# Altium schematic symbol library Symbols.SchLib: 494 symbols (part 1 of 5)
Pins are listed as number, name and electrical type; pins without a type are passive.

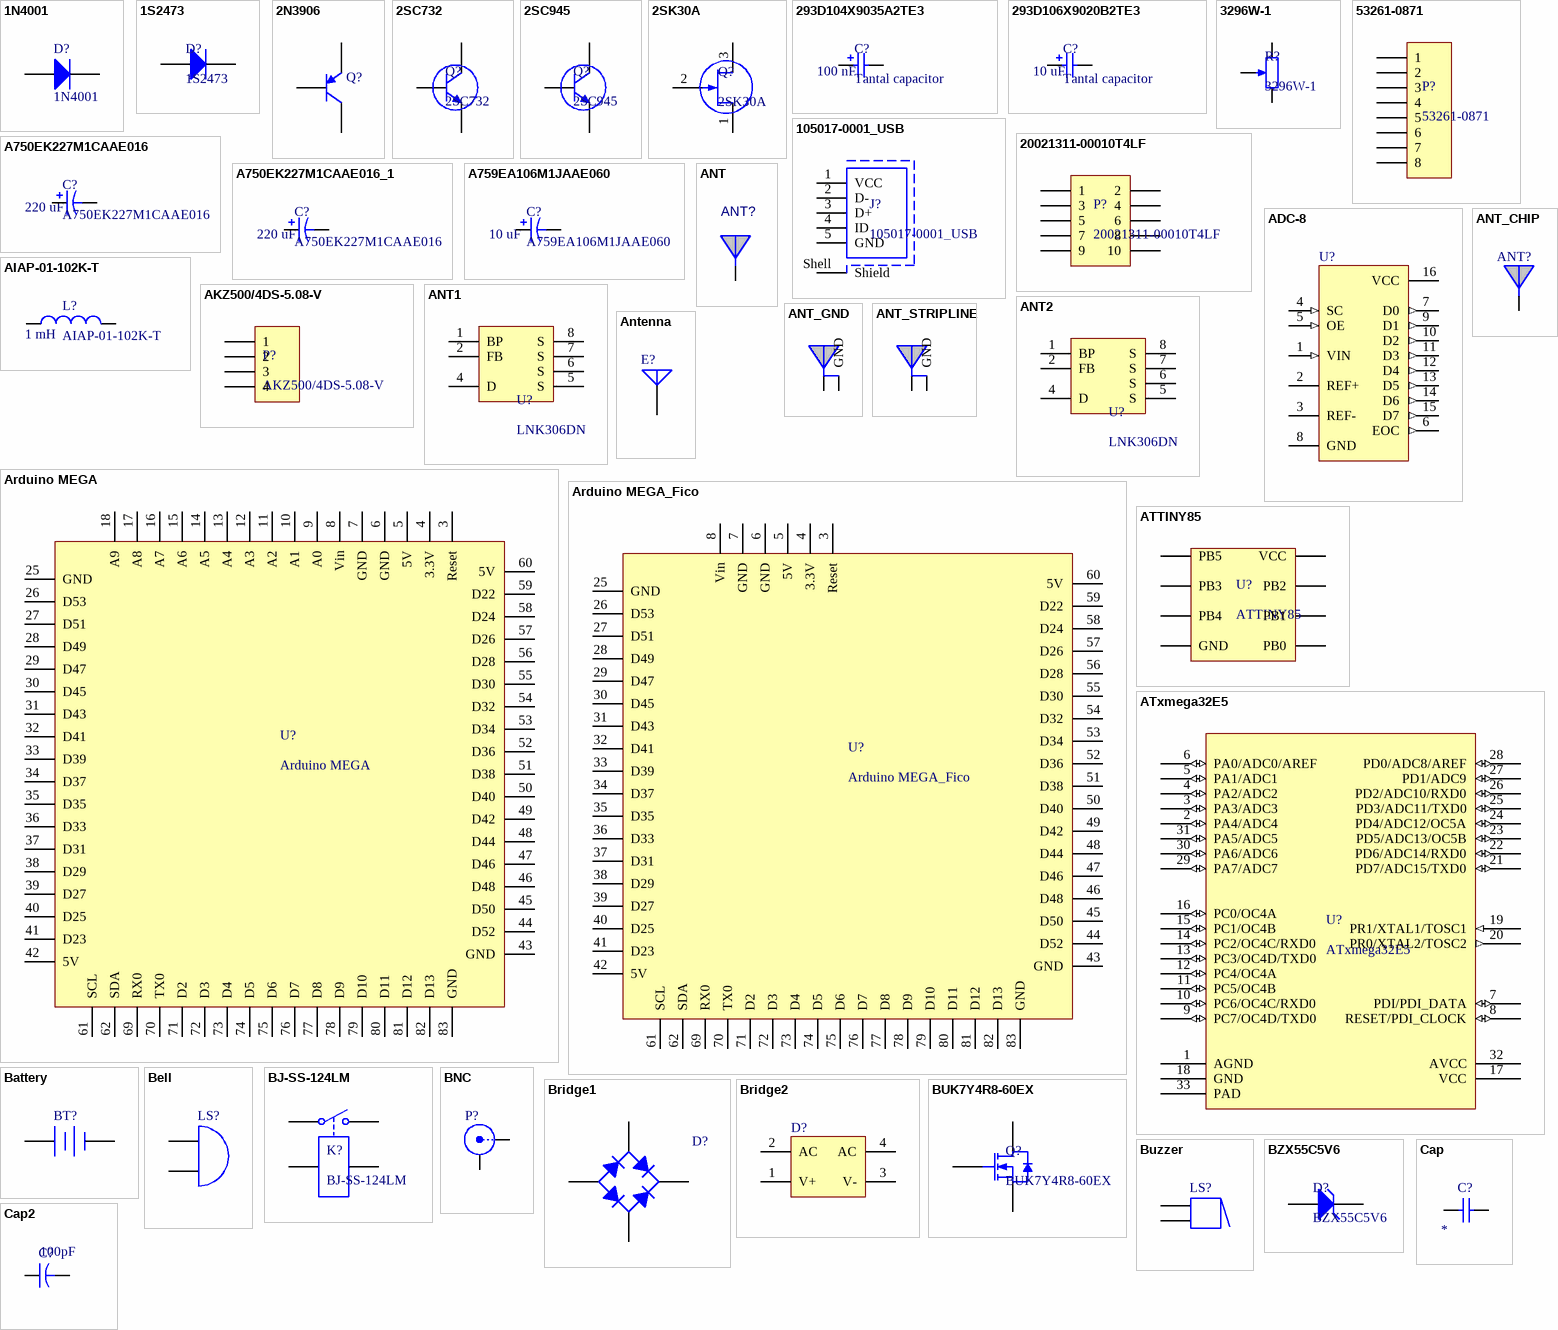
[diagram p0: symbols 1N4001 to Cap2]

## 1N4001
designator D?
1 Amp General Purpose Rectifier; Supplier1: Farnell; PackageReference: DO-41; ComponentLink1Description: Manufacturer Link; ComponentLink1URL: http://si.farnell.com/multicomp/1n4001/diode-standard-1a-50v-do-41/dp/9564993; ComponentLink2Description: Datasheet; ComponentLink2URL: http://www.farnell.com/datasheets/1520776.pdf?_ga=1.210767317.1762308356.1476454189; Supplier1URL: 9564993
footprint DO-41 (Diode, Axial; Body 5.2 x 2.7 mm (LxDia. max), Lead Dia. 0.86 mm (max))
pins: 1 A, 2 K

## 1S2473
designator D?
1S2473 diode; PacketDescription: DO-35; ComponentLink1Description: SupplierLink; ComponentLink1URL: http://www.ebay.com/sch/i.html?_from=R40&_trksid=p2050601.m570.l1313.TR0.TRC0.H0.X1S2473.TRS0&_nkw=1S2473&_sacat=0; ComponentLink2Description: Datasheet; ComponentLink2URL: http://www.datasheets360.com/pdf/4016301322630464877; Supplier1: eBay; Supplier Part Number 1: *; Value: *
footprint DO-35A (Diode, Axial; Body 4.6 x 1.9 mm (LxDia. max), Lead Dia. 0.53 mm (max))
pins: 1 A, 2 K

## 2N3906
designator Q?
PNP General Purpose Amplifier; Published: 8-Jun-2000; LatestRevisionDate: 15-Jan-2003; LatestRevisionNote: PCB Footprint 'BCY-W3/D4.7' replaced; DatasheetVersion: 1997; PackageVersion: Sep-1998; PackageReference: TO-92A; Publisher: Altium Limited; PackageDescription: TO, Flat Index; 3 In-Line, Axial Leads; Body Dia. 4.5mm; Leads 0.51 x 0.48 mm (max); ComponentLink1Description: Manufacturer Link; ComponentLink1URL: http://www.fairchildsemi.com/; ComponentLink2Description: Datasheet; ComponentLink2URL: http://www.fairchildsemi.com/ds/2N%2F2N3906.pdf
footprint TO-92A (TO, Flat Index; 3 In-Line, Axial Leads; Body Dia. 4.5mm; Leads 0.51 x 0.48 mm (max))
pins: 1 E, 2 B, 3 C

## 2SC732
designator Q?
2SC732TM-GR; PacketDescription: TO-92; ComponentLink1Description: SupplierLink; ComponentLink1URL: http://www.ebay.com/itm/2SC732-Encapsulation-TO-92-/120922014012?hash=item1c2783813c:g:MPoAAOSwa39UxafH; ComponentLink2Description: Datasheet; ComponentLink2URL: http://www.datasheets360.com/pdf/8018894242523559341; Supplier1: Ebay; Supplier Part Number 1: *; Value: *
footprint TO-92A (TO, Flat Index; 3 In-Line, Axial Leads; Body Dia. 4.5mm; Leads 0.51 x 0.48 mm (max))
pins: 1 E, 2 C, 3 B

## 2SC945
designator Q?
2SC945-P; PacketDescription: TO-92; ComponentLink1Description: SupplierLink; ComponentLink1URL: http://www.ebay.com/itm/50pairs-OR-100PCS-Transistor-TO-92-2SA733-P-2SC945-P-2SA733-2SC945-A733-P-C945-P-/272042034440?hash=item3f56f80508:g:FksAAOSwwbdWQgns; ComponentLink2Description: Datasheet; ComponentLink2URL: http://pdf.datasheetcatalog.com/datasheet/nec/2SC945.pdf; Supplier1: Ebay; Supplier Part Number 1: *; Value: *
footprint TO-92A (TO, Flat Index; 3 In-Line, Axial Leads; Body Dia. 4.5mm; Leads 0.51 x 0.48 mm (max))
pins: 1 E, 2 C, 3 B

## 2SK30A
designator Q?
2SK30ATM; PacketDescription: TO-92; ComponentLink1Description: SupplierLink; ComponentLink1URL: http://www.ebay.com/itm/10PCS-TOSHIBA-TO-92-2SK30ATM-Y-2SK30A-Y-2SK30A-K30A-Y-K30A-100-Genuine-and-New-/401025088597?hash=item5d5ef53c55:g:SzUAAOSwo0JWJkXx; ComponentLink2Description: Datasheet; ComponentLink2URL: http://pdf.datasheetcatalog.com/datasheet/toshiba/1032.pdf; Supplier1: Ebay; Supplier Part Number 1: *; Value: *
footprint TO-92A (TO, Flat Index; 3 In-Line, Axial Leads; Body Dia. 4.5mm; Leads 0.51 x 0.48 mm (max))
pins: 1 S, 2 G, 3 D

## 293D104X9035A2TE3
designator C?, comment Tantal capacitor  value 100 nF
0.1uF; 35VDC; PacketDescription: 3216 [Case A]; ComponentLink1Description: SupplierLink; ComponentLink1URL: https://www.tme.eu/gb/details/293d104x9035a2te3/smd-tantalum-capacitors/vishay/; ComponentLink2Description: Datasheet; ComponentLink2URL: https://www.tme.eu/gb/Document/a5d90d85079967994fb49c0e8f8ad6e9/293d.pdf; Supplier1: TME; SupplierPartNumber1: https://www.tme.eu/gb/details/293d104x9035a2te3/smd-tantalum-capacitors/vishay/
footprint CT1206[3216] (Capacitor Tantal)
pins: 1, 2

## 293D106X9020B2TE3
designator C?, comment Tantal capacitor  value 10 uF
10uF; 20VDC; PacketDescription: 3528 [Case B]; ComponentLink1Description: SupplierLink; ComponentLink1URL: https://www.tme.eu/gb/details/293d106x9020b2te3/smd-tantalum-capacitors/vishay/; ComponentLink2Description: Datasheet; ComponentLink2URL: https://www.tme.eu/gb/Document/a5d90d85079967994fb49c0e8f8ad6e9/293d.pdf; Supplier1: TME; SupplierPartNumber1: *
footprint 3528 [Case B] (Capacitor Tantal ; Case B)
pins: 1, 2

## 3296W-1
designator R?
3296W-1 Trimmer Potentiometer; ComponentLink1Description: Supplierlink; PackageDescription: /; ComponentLink1URL: https://si.farnell.com/bourns/3296w-1-100lf/trimmer-25-turn-10r/dp/9353151?st=3296; ComponentLink2Description: Datasheet; ComponentLink2URL: http://www.farnell.com/datasheets/2061261.pdf?_ga=2.190614831.50058377.1539788702-1521408613.1530033030; Supplier1: Farnell; SupplierPartNumber1: 9353151
footprint 3296_Trimmer
pins: 1, 2, 3

## 53261-0871
designator P?
1.25mm Pitch PicoBlade Header, Surface Mount; ComponentLink1Description: Supplierlink; ComponentLink1URL: https://www.tme.eu/sl/details/mx-53261-0871/signalni-konektorji-raster-125mm/molex/53261-0871/; ComponentLink2Description: Datasheet; ComponentLink2URL: https://www.tme.eu/sl/Document/f14fbdf9ef7b31f3280705be8a04e0fb/mx53261.pdf; Supplier1: TME; SupplierPartNumber1: https://www.tme.eu/sl/details/mx-53261-0871/signalni-konektorji-raster-125mm/molex/53261-0871/
footprint 53261-0871 (1.25mm Pitch PicoBlade Header)
pins: 1, 2, 3, 4, 5, 6, 7, 8

## 105017-0001_USB
designator J?
Molex Micro USB 2.0 Type B; ComponentLink1Description: Supplierlink; PackageDescription: Micro usb type B; ComponentLink1URL: https://www.tme.eu/si/sl/details/mx-105017-0001/usb-in-ieee1394-konektorji/molex/105017-0001/; ComponentLink2Description: Datasheet; ComponentLink2URL: https://www.tme.eu/Document/b7989e722b05f5084c507fb3ad8f02cb/MX-105017-0001.pdf; Supplier1: TME; SupplierPartNumber1: https://www.tme.eu/si/sl/details/mx-105017-0001/usb-in-ieee1394-konektorji/molex/105017-0001/
footprint 105017-0001 (Micro USB 2.0 Type B Horizontal)
pins: 1 VCC, 2 D-, 3 D+, 4 ID, 5 GND, Shell Shield

## 20021311-00010T4LF
designator P?
Board-To-Board Connector, 1.27 mm, 10 contacts; ComponentLink1Description: Supplierlink; PackageDescription: 1.27 mm, 10 contacts, 2 rows; ComponentLink1URL: https://si.farnell.com/amphenol-icc-fci/20021311-00010t4lf/receptacle-vert-1-27mm-tht-10way/dp/1865313?st=board%20to%20board; ComponentLink2Description: Datasheet; ComponentLink2URL: https://cdn.amphenol-icc.com/media/wysiwyg/files/drawing/20021311.pdf; Supplier1: Farnell; SupplierPartNumber1: 1865313
footprint 20021311-10p (1.27mm, 2x10 BTB connector)
pins: 1, 2, 3, 4, 5, 6, 7, 8, 9, 10

## A750EK227M1CAAE016
designator C?  value 220 uF
A750EK227M1CAAE016 - Capacitor - 220 µF - 16 V; PacketDescription: TH; ComponentLink1Description: SupplierLink; ComponentLink1URL: https://si.farnell.com/kemet/a750ek227m1caae016/cap-220-f-16v-20/dp/2614020?scope=partnumberlookahead&ost=2614020&searchref=searchlookahead&exaMfpn=true&ddkey=https%3Asl-SL%2FElement14_Slovenia%2Fw%2Fsearch; ComponentLink2Description: Datasheet; ComponentLink2URL: http://www.farnell.com/datasheets/2313898.pdf?_ga=2.254971276.502385536.1549486120-1151660017.1534334933&_gac=1.16683460.1548779359.Cj0KCQiAkMDiBRDNARIsACKP1FEg8SfSMTNRZFh814XftwOM7CrPVrvo9a7QR5ChQ4a7cfNiQJOCbUsaAr2lEALw_wcB; Supplier1: Farnell; SupplierPartNumber1: 2614020
footprint A750EK
pins: 1, 2

## A750EK227M1CAAE016_1
designator C?, comment A750EK227M1CAAE016  value 220 uF
A750EK227M1CAAE016 - Capacitor - 220 µF - 16 V; PacketDescription: TH; ComponentLink1Description: SupplierLink; ComponentLink1URL: https://si.farnell.com/kemet/a750ek227m1caae016/cap-220-f-16v-20/dp/2614020?scope=partnumberlookahead&ost=2614020&searchref=searchlookahead&exaMfpn=true&ddkey=https%3Asl-SL%2FElement14_Slovenia%2Fw%2Fsearch; ComponentLink2Description: Datasheet; ComponentLink2URL: http://www.farnell.com/datasheets/2313898.pdf?_ga=2.254971276.502385536.1549486120-1151660017.1534334933&_gac=1.16683460.1548779359.Cj0KCQiAkMDiBRDNARIsACKP1FEg8SfSMTNRZFh814XftwOM7CrPVrvo9a7QR5ChQ4a7cfNiQJOCbUsaAr2lEALw_wcB; Supplier1: Farnell; SupplierPartNumber1: 2614020
footprint A750EK
pins: 1, 2

## A759EA106M1JAAE060
designator C?  value 10 uF
A759EA106M1JAAE060 - Capacitor - 10 µF - 63 V - Low ESR (60m); PacketDescription: TH; ComponentLink1Description: SupplierLink; ComponentLink1URL: https://si.farnell.com/kemet/a759ea106m1jaae060/cap-10uf-63v-alu-polymer-radial/dp/4071156; ComponentLink2Description: Datasheet; ComponentLink2URL: https://content.kemet.com/datasheets/KEM_A4072_A759.pdf; Supplier1: Farnell; SupplierPartNumber1: 4071156
footprint A759EA
pins: 1, 2

## ADC-8
designator U?
Generic 8-Bit A/D Converter; Published: 8-Jun-2000; LatestRevisionDate: 29-May-2009; LatestRevisionNote: IPC-7351 Footprint Added.; PackageVersion: Mar-2002; PackageReference: SOT403-1; Publisher: Altium Limited; PackageDescription: 16-Pin Thin Small Outline Package 0.65 mm Pitch; Code_JEDEC: MO-153
footprint SOT403-1_N (TSOP, 16-Leads, Body 5x4.4mm, Pitch 0.65mm, IPC Medium Density)
footprint SOT403-1_L (TSOP, 16-Leads, Body 5x4.4mm, Pitch 0.65mm, IPC High Density)
footprint SOT403-1_M (TSOP, 16-Leads, Body 5x4.4mm, Pitch 0.65mm, IPC Low Density)
pins: 1 VIN (in), 2 REF+, 3 REF-, 4 SC (in), 5 OE (in), 6 EOC (out), 7 D0 (out), 8 GND (power), 9 D1 (out), 10 D2 (out), 11 D3 (out), 12 D4 (out), 13 D5 (out), 14 D6 (out), 15 D7 (out), 16 VCC (power)

## AIAP-01-102K-T
designator L?  value 1 mH
Abracon LLC AIAP-01-102K-T; ComponentLink1Description: Supplierlink; ComponentLink1URL: https://eu.mouser.com/ProductDetail/ABRACON/AIAP-01-102K-T?qs=%2fha2pyFaduhIG%2fB2RE5HvL6WnV%252bF%2fTgjXameAoHXJwG8W6vwZpXPIA%3d%3d; ComponentLink2Description: Datasheet; ComponentLink2URL: http://www.abracon.com/Magnetics/new/AIAP-01.pdf; Supplier1: Mouser; SupplierPartNumber1: 815-AIAP01102KT
footprint AIAP-01
pins: 1, 2

## AKZ500/4DS-5.08-V
designator P?
Terminal_block; ComponentLink1Desciption: Supplierlink; PackageDescription: Terminal block; ComponentLink1URL: https://www.conrad.si/Vticne-spojke-serije-AK%28Z%29500-V,-raster:-5.08-mm,-17.5-A,-siva,-PTR-50500040134G.htm?websale8=conrad-slowenien.01-aa&pi=731908; ComponentLink2Description: Datasheet; ComponentLink2URL: http://www.produktinfo.conrad.com/datenblaetter/725000-749999/731908-da-01-de-SCHRAUBKLEMME_AKZ500_V_RM5_08_GRAU_4POL.pdf; Supplier1: Conrad; SupplierPartNumber1: 731908
footprint AKZ500/4DS-5.08-V
pins: 1, 2, 3, 4

## ANT
designator ANT?  (value not drawn)
Antenna
footprint FREE STRIPANT (Free StripLine Antenna)
footprint ANT 0868AT43A0020 (868 Antenna Johanson Technology 0868AT43A0020)
pins: ANT

## ANT1
designator U?, comment LNK306DN
LNK306DN - AC/DC Off-Line Switcher IC; ComponentLink1Description: Supplierlink; PackageDescription: AC/DC Off-Line Switcher IC; ComponentLink1URL: http://si.farnell.com/power-integrations/lnk306dn/ic-off-line-switcher-225ma-360ma/dp/1448229; ComponentLink2Description: Datasheet; ComponentLink2URL: http://www.farnell.com/datasheets/2059771.pdf?_ga=2.59169380.855246737.1510039105-1866036872.1506721459&_gac=1.115494388.1509893228.CjwKCAjw7frPBRBVEiwAuDf_LXlrjw5vBXiuyKtw25GuiPLDKV5cnVdEcFzcF753v9PaBj8Hg6kd-RoC_yYQAvD_BwE; Supplier1: Farnell; SupplierPartNumber1: 1448229
footprint SO-8C
pins: 1 BP, 2 FB, 4 D, 5 S, 6 S, 7 S, 8 S

## ANT2
designator U?, comment LNK306DN
LNK306DN - AC/DC Off-Line Switcher IC; ComponentLink1Description: Supplierlink; PackageDescription: AC/DC Off-Line Switcher IC; ComponentLink1URL: http://si.farnell.com/power-integrations/lnk306dn/ic-off-line-switcher-225ma-360ma/dp/1448229; ComponentLink2Description: Datasheet; ComponentLink2URL: http://www.farnell.com/datasheets/2059771.pdf?_ga=2.59169380.855246737.1510039105-1866036872.1506721459&_gac=1.115494388.1509893228.CjwKCAjw7frPBRBVEiwAuDf_LXlrjw5vBXiuyKtw25GuiPLDKV5cnVdEcFzcF753v9PaBj8Hg6kd-RoC_yYQAvD_BwE; Supplier1: Farnell; SupplierPartNumber1: 1448229
footprint SO-8C
pins: 1 BP, 2 FB, 4 D, 5 S, 6 S, 7 S, 8 S

## ANT_CHIP
designator ANT?  (value not drawn)
Chip Antenna BLE 5 2.45 GHz
footprint ANT_AMCA31-2R450G-S1F-T3 (PCB Chip Antenna 2.45GHz)
footprint ANT FR05-S1-N-0-102 (PCB Chip Antenna 2.45GHz)
pins: ANT

## ANT_GND
designator ANT_GND  (value not drawn)
Antenna + GND conn
footprint ANT-PRO-OB-471 (ProAnt Antenna 868MHz)
pins: 1 GND, 2 ANT

## ANT_STRIPLINE
designator ANT?  (value not drawn)  (net tie, no BOM)
Stripline Antenna
footprint ANT_STRIP_1mm (Free StripLine Antenna)
footprint ANT_STRIP_2mm (Free StripLine Antenna)
pins: A ANT, B GND

## Antenna
designator E?
Generic Antenna; Published: 24-Mar-1999; LatestRevisionDate: 17-Jul-2002; LatestRevisionNote: Re-released for DXP Platform.; PackageReference: PIN1; Publisher: Altium Limited
footprint PIN1 (Generic Antenna; 1 Lead)
pins: 1 A

## Arduino MEGA
designator U?
ComponentLink1Description: SupplierLink; ComponentLink1URL: http://si.farnell.com/multicomp/usb-b-s-ra/usb-2-0-type-b-receptacle-th/dp/2112373?ost=2112373&selectedCategoryId=&categoryNameResp=Vse%2Bkategorije&searchView=table&iscrfnonsku=false; ComponentLink2Description: Datasheet; ComponentLink2URL: http://www.farnell.com/datasheets/1643399.pdf?_ga=1.48976864.757351841.1476283473; Supplier1: Farnell; Supplier Part Number 1: 2112373; Value: *; PacketDescription: *
footprint Arduino Mega  - No 3D (Arduino Mega)
footprint Arduino Mega
pins: 3 Reset, 4 3.3V, 5 5V, 6 GND, 7 GND, 8 Vin, 9 A0, 10 A1, 11 A2, 12 A3, 13 A4, 14 A5, 15 A6, 16 A7, 17 A8, 18 A9, 25 GND, 26 D53, 27 D51, 28 D49, 29 D47, 30 D45, 31 D43, 32 D41, 33 D39, 34 D37, 35 D35, 36 D33, 37 D31, 38 D29, 39 D27, 40 D25, 41 D23, 42 5V, 43 GND, 44 D52, 45 D50, 46 D48, 47 D46, 48 D44, 49 D42, 50 D40, 51 D38, 52 D36, 53 D34, 54 D32, 55 D30, 56 D28, 57 D26, 58 D24, 59 D22, 60 5V, 61 SCL, 62 SDA, 69 RX0, 70 TX0, 71 D2, 72 D3, 73 D4, 74 D5, 75 D6, 76 D7, 77 D8, 78 D9, 79 D10, 80 D11, 81 D12, 82 D13, 83 GND

## Arduino MEGA_Fico
designator U?
Arduino MEGA; ComponentLink1Description: SupplierLink; ComponentLink1URL: http://si.farnell.com/multicomp/usb-b-s-ra/usb-2-0-type-b-receptacle-th/dp/2112373?ost=2112373&selectedCategoryId=&categoryNameResp=Vse%2Bkategorije&searchView=table&iscrfnonsku=false; ComponentLink2Description: Datasheet; ComponentLink2URL: http://www.farnell.com/datasheets/1643399.pdf?_ga=1.48976864.757351841.1476283473; Supplier1: Farnell; Supplier Part Number 1: 2112373; Value: *; PacketDescription: *
footprint Arduino Mega  - No 3D (Arduino Mega)
footprint Arduino Mega
pins: 3 Reset, 4 3.3V, 5 5V, 6 GND, 7 GND, 8 Vin, 25 GND, 26 D53, 27 D51, 28 D49, 29 D47, 30 D45, 31 D43, 32 D41, 33 D39, 34 D37, 35 D35, 36 D33, 37 D31, 38 D29, 39 D27, 40 D25, 41 D23, 42 5V, 43 GND, 44 D52, 45 D50, 46 D48, 47 D46, 48 D44, 49 D42, 50 D40, 51 D38, 52 D36, 53 D34, 54 D32, 55 D30, 56 D28, 57 D26, 58 D24, 59 D22, 60 5V, 61 SCL, 62 SDA, 69 RX0, 70 TX0, 71 D2, 72 D3, 73 D4, 74 D5, 75 D6, 76 D7, 77 D8, 78 D9, 79 D10, 80 D11, 81 D12, 82 D13, 83 GND

## ATTINY85
designator U?
ComponentLink1Desciption: Supplierlink; PackageDescription: DIP-8; ComponentLink1URL: /; ComponentLink2Description: Datasheet; ComponentLink2URL: http://www.atmel.com/images/atmel-2586-avr-8-bit-microcontroller-attiny25-attiny45-attiny85_datasheet.pdf; Supplier1: /; Supplier Part Number 1: /
footprint DIP-8 (DIP; 8 Leads; Row Spacing 7.62 mm; Pitch 2.54 mm)
footprint DIP-8-SOCKET (DIP; 8 Leads; Row Spacing 7.62 mm; Pitch 2.54 mm)
pins: 1 PB5, 2 PB3, 3 PB4, 4 GND, 5 PB0, 6 PB1, 7 PB2, 8 VCC

## ATxmega32E5
designator U?
8/16-bit AVR XMEGA; ComponentLink1Desciption: Supplierlink; PackageDescription: QFN32; ComponentLink1URL: https://eu.mouser.com/ProductDetail/Microchip-Technology-Atmel/ATXMEGA32E5-MU?qs=sGAEpiMZZMsXXU7tc6nusZROVXclRmp5; ComponentLink2Description: Datasheet; ComponentLink2URL: https://eu.mouser.com/datasheet/2/268/Atmel-8153-8-and-16-bit-AVR-Microcontroller-XMEGA--1315766.pdf; Supplier1: Mouser; SupplierPartNumber1: 556-ATXMEGA32E5-MU
footprint VQFN32
pins: 1 AGND (power), 2 PA4/ADC4 (io), 3 PA3/ADC3 (io), 4 PA2/ADC2 (io), 5 PA1/ADC1 (io), 6 PA0/ADC0/AREF (io), 7 PDI/PDI_DATA (io), 8 RESET/PDI_CLOCK (io), 9 PC7/OC4D/TXD0 (io), 10 PC6/OC4C/RXD0 (io), 11 PC5/OC4B (io), 12 PC4/OC4A (io), 13 PC3/OC4D/TXD0 (io), 14 PC2/OC4C/RXD0 (io), 15 PC1/OC4B (io), 16 PC0/OC4A (io), 17 VCC (power), 18 GND (power), 19 PR1/XTAL1/TOSC1 (in), 20 PR0/XTAL2/TOSC2 (out), 21 PD7/ADC15/TXD0 (io), 22 PD6/ADC14/RXD0 (io), 23 PD5/ADC13/OC5B (io), 24 PD4/ADC12/OC5A (io), 25 PD3/ADC11/TXD0 (io), 26 PD2/ADC10/RXD0 (io), 27 PD1/ADC9 (io), 28 PD0/ADC8/AREF (io), 29 PA7/ADC7 (io), 30 PA6/ADC6 (io), 31 PA5/ADC5 (io), 32 AVCC (power), 33 PAD (power)

## Battery
designator BT?
Multicell Battery; Published: 24-Mar-1999; LatestRevisionDate: 17-Jul-2002; LatestRevisionNote: Re-released for DXP Platform.; PackageReference: BAT-2; Publisher: Altium Limited; PackageDescription: Battery; 2 Leads
footprint BAT-2 (Battery; 2 Leads)
pins: 1 +, 2 -

## Bell
designator LS?
Electrical Bell; Published: 24-Mar-1999; LatestRevisionDate: 17-Jul-2002; LatestRevisionNote: Re-released for DXP Platform.; PackageReference: PIN2; Publisher: Altium Limited
footprint PIN2 (Electrical Bell; 2 Leads)
pins: 1 A, 2 B

## BJ-SS-124LM
designator K?
Relay SPST; ComponentLink1Desciption: Supplierlink; PackageDescription: Relay; ComponentLink1URL: https://www.conrad.com/ce/en/product/1405625/PCB-relays----24-Vdc----10-A----1-maker----AFE----BJ-SS-124LM; ComponentLink2Description: Datasheet; ComponentLink2URL: https://produktinfo.conrad.com/datenblaetter/1400000-1499999/001405625-da-01-en-RELAIS_AFE_24V_DC_BJ_SS_124LM.pdf; Supplier1: Conrad; SupplierPartNumber1: 1405625
footprint BJ-SS-124LM
pins: 1, 2, 3, 4

## BNC
designator P?
BNC Elbow Connector; LatestRevisionDate: 17-Jul-2002; LatestRevisionNote: Re-released for DXP Platform.; Publisher: Altium Limited
footprint BNC_RA CON (Connector; BNC Elbow)
signal-integrity model Connector
pins: 1 X, 2 Y

## Bridge1
designator D?
Full Wave Diode Bridge; Published: 8-Jun-2000; LatestRevisionDate: 29-May-2009; LatestRevisionNote: Sch pins A & K swapped.; DatasheetVersion: E2732B; PackageReference: D-38; Publisher: Altium Limited; PackageDescription: Bridge Rectifier; 4 Terminals; Body 9.4 x 9.4 mm (typ); Pitch 5.08 mm
footprint D-38 (Bridge Rectifier; 4 Terminals; Body 9.4 x 9.4 mm (typ); Pitch 5.08 mm)
pins: 1 K, 2 C, 3 A, 4 C

## Bridge2
designator D?
Diode Bridge; Published: 24-Mar-1999; LatestRevisionDate: 17-Jul-2002; LatestRevisionNote: Re-released for DXP Platform.; PackageReference: D-46_6A; Publisher: Altium Limited; PackageDescription: Bridge Rectifier; 4 Terminals; Body 16.8 x 16.8 mm (typ); Pitch 10.67 mm
footprint D-46_6A (Bridge Rectifier; 4 Terminals; Body 16.8 x 16.8 mm (typ); Pitch 10.67 mm)
pins: 1 V+, 2 AC, 3 V-, 4 AC

## BUK7Y4R8-60EX
designator Q?
Power MOSFET, N Channel, 60 V, 100 A, 0.0029 ohm, LFPAK56, Surface Mount; ComponentLink1Description: Supplierlink; PackageDescription: SOT669; ComponentLink1URL: https://si.farnell.com/nexperia/buk7y4r8-60ex/mosfet-aecq101-n-ch-60v-100a-lfpak56/dp/3439679?st=buk7y4r8-60e; ComponentLink2Description: Datasheet; ComponentLink2URL: https://4donline.ihs.com/images/VipMasterIC/IC/NEXP/NEXP-S-A0003060256/NEXP-S-A0003059997-1.pdf?hkey=6D3A4C79FDBF58556ACFDE234799DDF0; Supplier1: Farnell; SupplierPartNumber1: 3439679
footprint SOT669
pins: 1 G, 2 D, 3 S

## Buzzer
designator LS?
Magnetic Transducer Buzzer; Published: 24-Mar-1999; LatestRevisionDate: 17-Dec-2003; LatestRevisionNote: Schematic revised, PCB Footprint replaced.; DatasheetVersion: 17-Dec-2003; PackageReference: ABSM-1574; Publisher: Altium Limited; PackageDescription: Magnetic Transducer Buzzer; ComponentLink1Description: Manufacturer Link; ComponentLink1URL: http://www.megastar.com/linecard/buzzmode/index.php
footprint ABSM-1574 (Magnetic Transducer Buzzer)
pins: 1, 1A, 2, 2A
1 alternate drawing of the same symbol

## BZX55C5V6
designator D?
BZX55C5V6-TAP  Zener Single Diode, 5.6 V, 500 mW; PacketDescription: DO-35; ComponentLink1Description: SupplierLink; ComponentLink1URL: http://si.farnell.com/vishay/bzx55c5v6-tap/diode-zener-5-6v-0-5w-5-do35/dp/1779202; ComponentLink2Description: Datasheet; Supplier1: Farnell; Supplier Part Number 1: 1779202; Value: *; ComponentLink2URL: http://www.farnell.com/datasheets/2046255.pdf?_ga=1.257230411.1762308356.1476454189
footprint DO-35A (Diode, Axial; Body 4.6 x 1.9 mm (LxDia. max), Lead Dia. 0.53 mm (max))
pins: 1 A, 2 K

## Cap
designator C?  (value not drawn)
Capacitor; ComponentLink1Description: Supplierlink; ComponentLink2Description: Datasheet; Value: *
footprint RAD-0.3 (Radial Cap, Thru-Hole; 2 Leads; 0.3 in Pin Spacing)
footprint C0603[1608] (Chip Capacitor, Body 1.6x0.8mm, IPC High Density)
footprint C0805[2012] (Chip Resistor)
pins: 1, 2

## Cap2
designator C?  value 100pF
Capacitor; Published: 23-Sep-2002; PackageReference: CAPR5-4X5; Publisher: Altium Limited; PackageDescription: Capacitor; 2 Leads
footprint CAPR5-4X5 (Capacitor; 2 Leads)
simulation model CAP (Capacitor)
signal-integrity model Cap
pins: 1, 2

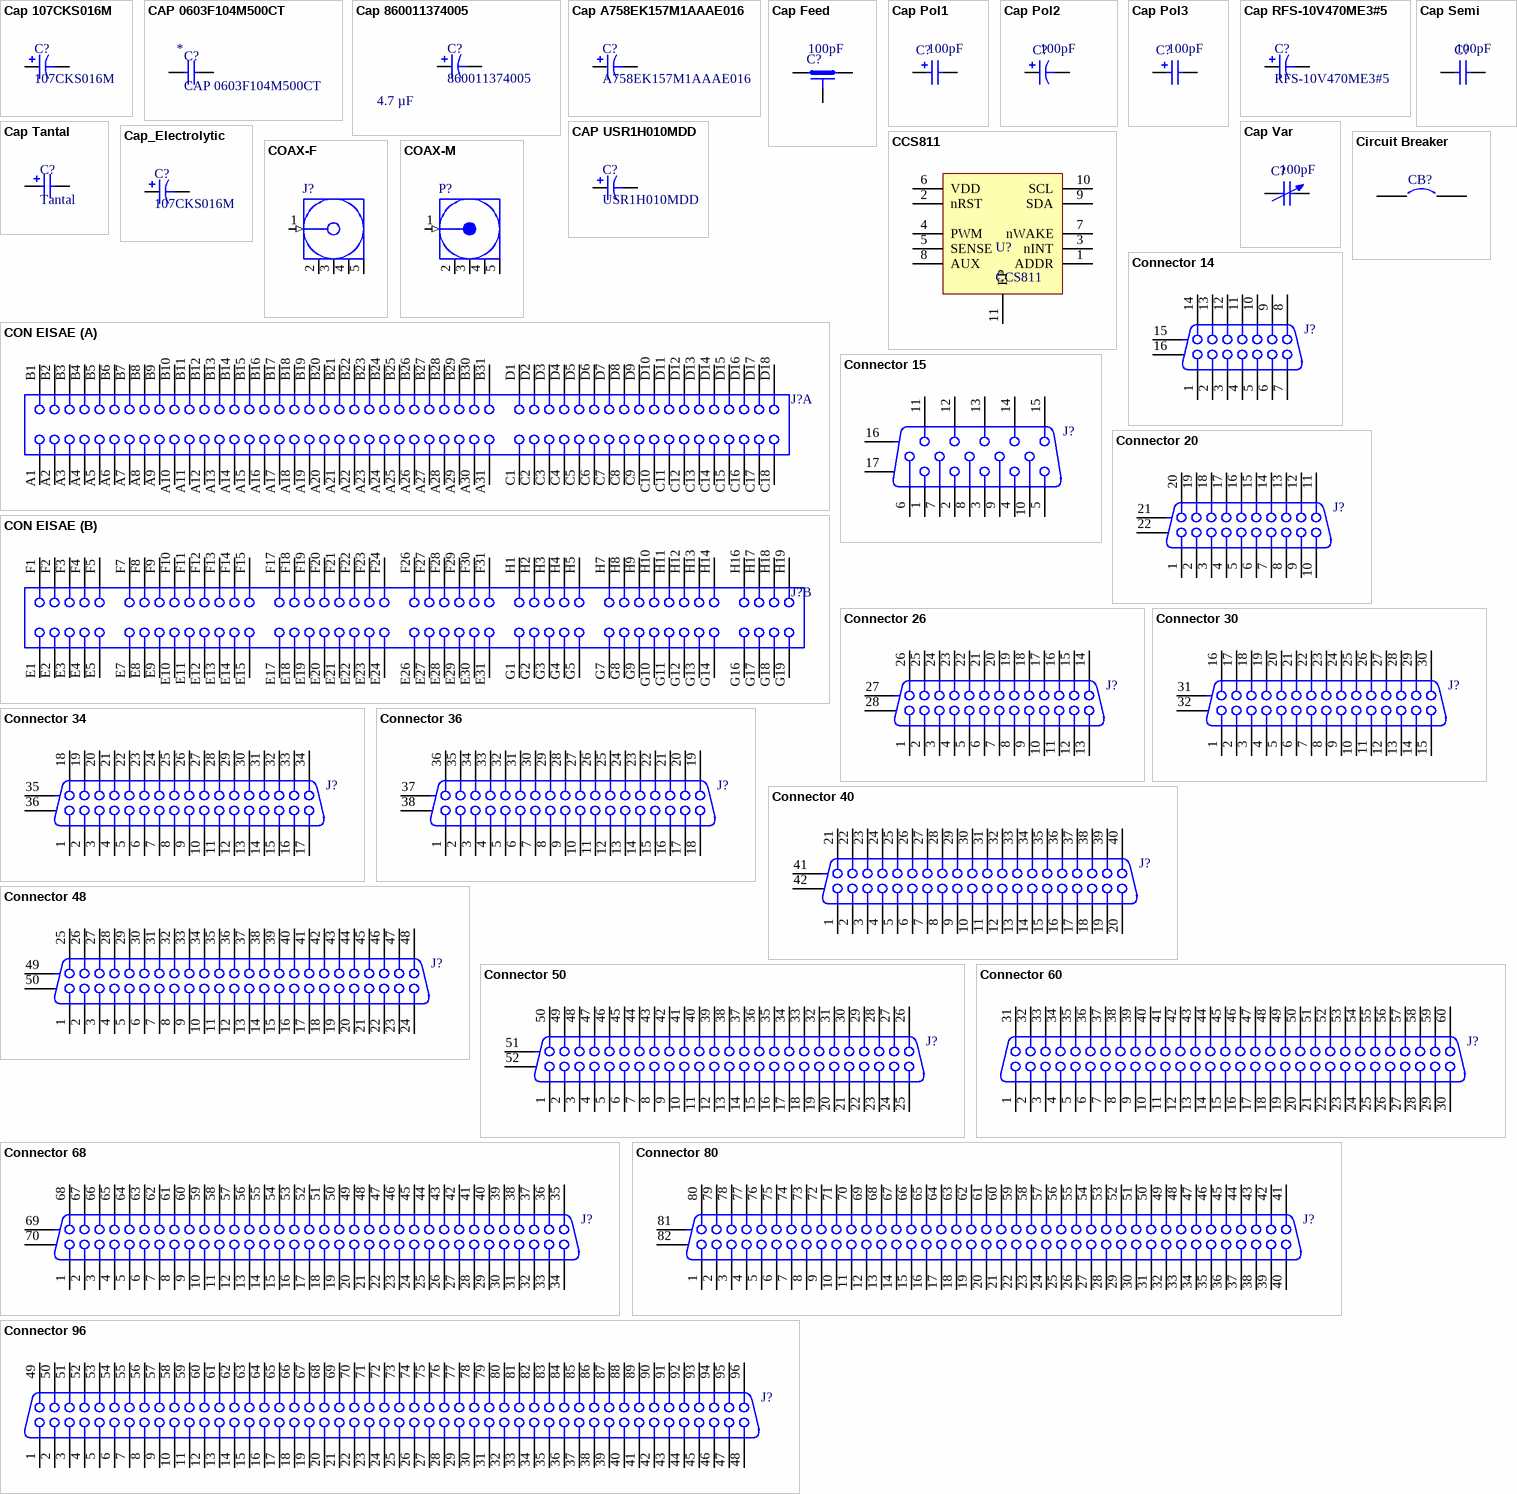
[diagram p1: symbols Cap 107CKS016M to Connector 96]

## Cap 107CKS016M
designator C?, comment 107CKS016M
Aluminium Electrolytic Capacitors - Leaded 100uF 16 Volts; ComponentLink1Description: SupplierLink; ComponentLink1URL: http://eu.mouser.com/ProductDetail/Cornell-Dubilier-CDE/107CKS016M/?qs=sGAEpiMZZMsh%252b1woXyUXj6tSaZI%252bOgx%2fqxj5EMBdt2A%3d; ComponentLink2Description: Datasheet; ComponentLink2URL: http://www.mouser.com/ds/2/88/CKR_CKS%20series-553026.pdf; Supplier1: Mouser; Supplier Part Number 1: 598-107CKS016M; Value: *; PacketDescription: *
footprint CAP -11X5 (Capacitor (Radial); 2 Leads)
pins: 1, 2

## CAP 0603F104M500CT
designator C?
0603F104M500CT -  SMD Multilayer Ceramic Capacitor; ComponentLink1Description: Supplierlink; PackageDescription: 0603 [1608 Metric]; ComponentLink1URL: http://si.farnell.com/walsin/0603f104m500ct/cap-mlcc-y5v-0-1uf-50v-0603-reel/dp/2524856?ost=2524856&iscrfnonsku=false&ddkey=http%3Asl-SL%2FElement14_Slovenia%2Fsearch; ComponentLink2Description: Datasheet; ComponentLink2URL: http://www.farnell.com/datasheets/2340522.pdf?_ga=2.126074957.1909185908.1512302851-1866036872.1506721459&_gac=1.94915310.1510851552.Cj0KCQiAi7XQBRDnARIsANeLIevih_j_Ops94zu5oRIOkDX6xESIY-ycJb35MWTzfwKOEKUBu7egMq0aAm36EALw_wcB; Supplier1: Farnell; SupplierPartNumber1: 2524856; Value: *
footprint C0603[1608] (Chip Capacitor, Body 1.6x0.8mm, IPC High Density)
pins: 1, 2

## Cap 860011374005
designator C?, comment 860011374005  value 4.7 µF
860011374005 -  Electrolytic Capacitor; PacketDescription: TH; ComponentLink1Description: SupplierLink; ComponentLink1URL: http://si.farnell.com/wurth-elektronik/860011374005/cap-alu-elec-4-7uf-400v-radial/dp/2465791; ComponentLink2Description: Datasheet; ComponentLink2URL: http://www.farnell.com/datasheets/1879634.pdf?_ga=2.191360418.922487917.1516839557-388806631.1512489217&_gac=1.55813721.1516696408.CjwKCAiA15vTBRAHEiwA7Snfc5aPYeD-J5ttgd5Xc7ZZSl9RhLSVBUwuJalpvFcgftWcOaxsZ6YiBhoC5JcQAvD_BwE; Supplier1: Farnell; SupplierPartNumber1: 2465791
footprint CAP - 8x11.5 (Capacitor (Radial); 2 Leads)
footprint CAP - 8x11.5 - Horizontal (Capacitor (Radial); 2 Leads)
pins: 1, 2

## Cap A758EK157M1AAAE016
designator C?, comment A758EK157M1AAAE016
A758EK157M1AAAE016 - Capacitor - 150 µF; Value: 150; PacketDescription: TH; ComponentLink1Description: SupplierLink; ComponentLink1URL: http://si.farnell.com/kemet/a758ek157m1aaae016/cap-alu-polymer-150uf-10v-radial/dp/2614081?ost=A758EK157M1AAAE016&iscrfnonsku=false&ddkey=http%3Asl-SL%2FElement14_Slovenia%2Fsearch; ComponentLink2Description: Datasheet; ComponentLink2URL: http://www.farnell.com/datasheets/2313957.pdf?_ga=2.77750612.1909185908.1512302851-1866036872.1506721459&_gac=1.27737422.1510851552.Cj0KCQiAi7XQBRDnARIsANeLIevih_j_Ops94zu5oRIOkDX6xESIY-ycJb35MWTzfwKOEKUBu7egMq0aAm36EALw_wcB; Supplier1: Farnell; SupplierPartNumber1: 2614081
footprint CAP - 6.3x8mm Lead-2.5mm
pins: 1, 2

## Cap Feed
designator C?  value 100pF
Feed-Through Capacitor; Note: Commonly used for bypassing high-frequency currents to chassis; Published: 24-Mar-1999; LatestRevisionDate: 17-Jul-2002; LatestRevisionNote: Re-released for DXP Platform.; PackageReference: VR4; Publisher: Altium Limited; PackageDescription: Variable Resistor, Thru-Hole; 3 Leads
footprint VR4 (Thru-Hole; 3 Leads)
signal-integrity model Cap Feed
pins: 1, 2, 3

## Cap Pol1
designator C?  value 100pF
Polarized Capacitor (Radial); Published: 8-Jun-2000; LatestRevisionDate: 17-Jul-2002; LatestRevisionNote: Re-released for DXP Platform.; PackageReference: RB7.6-15; Publisher: Altium Limited; PackageDescription: Polarized Capacitor (Radial); 2 Leads
footprint RB7.6-15 (Polarized Capacitor (Radial); 2 Leads)
simulation model CAP (Capacitor)
signal-integrity model Cap Pol
pins: 1, 2
1 alternate drawing of the same symbol

## Cap Pol2
designator C?  value 100pF
Polarized Capacitor (Axial); Published: 8-Jun-2000; LatestRevisionDate: 17-Jul-2002; LatestRevisionNote: Re-released for DXP Platform.; PackageReference: POLAR0.8; Publisher: Altium Limited; PackageDescription: Polarized Capacitor; 2 Leads
footprint POLAR0.8 (Polarized Capacitor; 2 Leads)
simulation model CAP (Capacitor)
signal-integrity model Cap Pol
pins: 1, 2
1 alternate drawing of the same symbol

## Cap Pol3
designator C?  value 100pF
Polarized Capacitor (Surface Mount); Published: 8-Jun-2000; LatestRevisionDate: 29-May-2009; LatestRevisionNote: IPC-7351 Footprint Added.; PackageReference: C0805; Publisher: Altium Limited; PackageDescription: Chip Capacitor
footprint 1812 (Chip Capacitor, Body 4.5x3.2mm, IPC High Density)
footprint 1825 (Chip Capacitor, Body 4.5x6.4mm, IPC High Density)
footprint C2225 (Chip Capacitor, Body 5.7x6.4mm, IPC High Density)
footprint 2220 (Chip Capacitor, Body 5.7x5.0mm, IPC High Density)
simulation model CAP (Capacitor)
signal-integrity model Cap Pol
pins: 1, 2
1 alternate drawing of the same symbol

## Cap RFS-10V470ME3#5
designator C?, comment RFS-10V470ME3#5
Aluminium Electrolytic Capacitors; ComponentLink1Description: SupplierLink; ComponentLink1URL: http://eu.mouser.com/ProductDetail/Elna/RFS-10V470ME35/?qs=sGAEpiMZZMtZ1n0r9vR22Vaq1AHMe%252bCMUgtuoKV2Vng%3d; ComponentLink2Description: Datasheet; ComponentLink2URL: http://www.mouser.com/ds/2/129/rfs_e-606.pdf; Supplier1: Mouser; Supplier Part Number 1: 555-RFS10V470ME3#5; Value: *; PacketDescription: *
footprint CAP -11X5 (Capacitor (Radial); 2 Leads)
pins: 1, 2

## Cap Semi
designator C?  value 100pF
Capacitor (Semiconductor SIM Model); Published: 8-Jun-2000; LatestRevisionDate: 29-May-2009; LatestRevisionNote: IPC-7351 Footprint Added.; PackageReference: C1206; Publisher: Altium Limited; PackageDescription: Chip Capacitor
footprint 0402 (Chip Capacitor, Body 1.0x0.5mm, IPC High Density)
footprint C2512 (Chip Capacitor, Body 2.54x1.27mm, IPC High Density)
footprint C1210 (Chip Capacitor, Body 3.2x2.5mm, IPC High Density)
pins: 1, 2

## Cap Tantal
designator C?, comment Tantal
Cap Tantal; ComponentLink1Description: SupplierLink; ComponentLink1URL: http://eu.mouser.com/; ComponentLink2Description: Datasheet; ComponentLink2URL: http://www.mouser.com/ds/2/40/TAJ_AUTO-783622.pdf; Supplier1: Mouser; Supplier Part Number 1: *; Value: *; PacketDescription: *
footprint CT1206[3216] (Capacitor Tantal)
footprint 3528 [Case B] (Capacitor Tantal ; Case B)
pins: 1, 2

## CAP USR1H010MDD
designator C?, comment USR1H010MDD
Aluminium Electrolytic Capacitors - Leaded 50volts 1uF 4x7; ComponentLink1Description: SupplierLink; ComponentLink1URL: http://eu.mouser.com/ProductDetail/Nichicon/USR1H010MDD/?qs=sGAEpiMZZMvwFf0viD3Y3Vr8O35b9KZU%252bEVsjm0yBXY%3d; ComponentLink2Description: Datasheet; ComponentLink2URL: http://www.mouser.com/ds/2/293/e-usa_usr-880000.pdf; Supplier1: Mouser; Supplier Part Number 1: 647-USR1H010MDD; Value: *; PacketDescription: *
footprint CAP - 4X7 (Capacitor (Radial); 2 Leads)
pins: 1, 2

## Cap Var
designator C?  value 100pF
Variable or Adjustable Capacitor; Published: 24-Mar-1999; LatestRevisionDate: 29-May-2009; LatestRevisionNote: IPC-7351 Footprint Added.; PackageReference: C1210; Publisher: Altium Limited; PackageDescription: Chip Capacitor 1210 Case Size; Code_JEITA: 1210; Code_IPC: CAPC3225
footprint C1210_N (Chip Capacitor, Body 3.2x2.5mm, IPC Medium Density)
footprint C1210_L (Chip Capacitor, Body 3.2x2.5mm, IPC High Density)
footprint C1210_M (Chip Capacitor, Body 3.2x2.5mm, IPC Low Density)
signal-integrity model Cap Var
pins: 1, 2

## Cap_Electrolytic
designator C?, comment 107CKS016M
Aluminium Electrolytic Capacitors; ComponentLink1Description: SupplierLink; ComponentLink2Description: Datasheet; Supplier1: Mouser; Value: *; PacketDescription: *
footprint CAP -11X5 (Capacitor (Radial); 2 Leads)
pins: 1, 2

## CCS811
designator U?
Air Quality Sensors; PackageDescription: LGA; ComponentLink2Description: Datasheet; ComponentLink1URL: https://eu.mouser.com/ProductDetail/ams/CCS811B-JOPD500?qs=sGAEpiMZZMtWSrBd5SaE4KIbT1yLGXllmotC4rT5S8UVcq9iKeQ2%2fA%3d%3d; Supplier1: Mouser; SupplierPartNumber1: 985-CCS811; ComponentLink1Description: Supplierlink; ComponentLink2URL: https://eu.mouser.com/datasheet/2/588/CCS811_DS000459_5-00-1218958.pdf
footprint LGA_CCS811
pins: 1 ADDR, 2 nRST, 3 nINT, 4 PWM, 5 SENSE, 6 VDD, 7 nWAKE, 8 AUX, 9 SDA, 10 SCL, 11 EP

## Circuit Breaker
designator CB?
Circuit Breaker; Published: 24-Mar-1999; LatestRevisionDate: 17-Jul-2002; LatestRevisionNote: Re-released for DXP Platform.; PackageReference: SPST-2; Publisher: Altium Limited; PackageDescription: Switch; 2 Leads
footprint SPST-2 (Switch; 2 Leads)
pins: 1, 2

## COAX-F
designator J?
RF Coaxial PCB Connector, MCX; Thru-Hole, Right-Angle Mount Socket, Blunt Post Terminal, 50 Ohm Impedance; PCB_Layout: Complies with manufacturer's recommendation.; DrillSize: Corresponds to nominal value.; Published: 15-Jul-2004; LatestRevisionDate: 15-Jul-2004; LatestRevisionNote: Component Replaced.; DatasheetDocument: 30-May-2003; PackageDocument: 04-Jul-1999; PackageReference: 919-119J-51AX; Publisher: Altium Limited; ComponentLink1Description: Manufacturer Link; ComponentLink1URL: http://www.amphenolrf.com/
footprint MCX5.08-H5 (Connector; RF Coaxial, MCX, Thru-Hole; 5 Position; Right-Angle)
pins: 1 Signal (in) "Signal Pin", 2 GND (power), 3 GND (power), 4 GND (power), 5 GND (power)

## COAX-M
designator P?
RF Coaxial PCB Connector, MMCX; Thru-Hole, Vertical Mount Plug,  50 Ohm Impedance; PackageDocument: Rev. A, 16-Jun-1997; PCB_Layout: Complies with manufacturer's recommendation.; DrillSize: Corresponds to nominal value.; Published: 15-Jul-2004; LatestRevisionDate: 15-Jul-2004; LatestRevisionNote: Component Replaced.; DatasheetDocument: 30-May-2003; PackageReference: 908-21103; Publisher: Altium Limited; ComponentLink1Description: Manufacturer Link; ComponentLink1URL: http://www.amphenolrf.com/
footprint MMCX2.54-V5 (Connector; RF Coaxial, MMCX, Thru-Hole; 5 Position; Vertical)
pins: 1 Signal (in) "Signal Pin", 2 GND (power), 3 GND (power), 4 GND (power), 5 GND (power)

## CON EISAE
designator J?
EISA Connector, 188 Positions, Vertical, Pitch 1.27mm; ContactPlating: Gold Flash; PCB_Layout: Complies with manufacturer's recommendation.; DrillSize: Corresponds to nominal value.; Note: Access Keys, E6 E16 E25 F6 F16 F25 G6 G15 H6 H15 not shown.; Published: 15-Jul-2004; LatestRevisionDate: 15-Jul-2004; LatestRevisionNote: Component Replaced.; DatasheetDocument: Feb-1997; PackageDocument: Feb-1997; PackageReference: EISA188; Publisher: Altium Limited; ComponentLink1Description: Manufacturer Link; ComponentLink1URL: http://www.astron.com.tw
footprint CARD1.27-2V188 (Connector; EISA, Thru-Hole; 188 Position; Vertical; Pitch 1.27 mm)
signal-integrity model EISA
part A pins: A1 CHCHK#, A2 SD7, A3 SD6, A4 SD5, A5 SD4, A6 SD3, A7 SD2, A8 SD1, A9 SD0, A10 CHRDY, A11 AEN, A12 SA19, A13 SA18, A14 SA17, A15 SA16, A16 SA15, A17 SA14, A18 SA13, A19 SA12, A20 SA11, A21 SA10, A22 SA9, A23 SA8, A24 SA7, A25 SA6, A26 SA5, A27 SA4, A28 SA3, A29 SA2, A30 SA1, A31 SA0, B1 GND "Ground", B2 RESDRV#, B3 +5V "+5 VDC", B4 IRQ2, B5 -5V, B6 DRQ2, B7 -12V, B8 NOWS#, B9 +12V "+12 VDC", B10 GND, B11 SMWTC#, B12 SMRDC#, B13 IOWC#, B14 IORC#, B15 DAK3#, B16 DRQ3, B17 DAK1#, B18 DRQ1, B19 REFRESH#, B20 BCLK, B21 IRQ7, B22 IRQ6, B23 IRQ5, B24 IRQ4, B25 IRQ3, B26 DAK2#, B27 TC, B28 BALE, B29 +5V "+5 VDC", B30 OSC, B31 GND "Ground", C1 SBHE#, C2 LA23, C3 LA22, C4 LA21, C5 LA20, C6 LA19, C7 LA18, C8 LA17, C9 MRDC#, C10 MWTC#, C11 SD8, C12 SD9, C13 SD10, C14 SD11, C15 SD12, C16 SD13, C17 SD14, C18 SD15, D1 M16#, D2 IO16#, D3 IRQ10, D4 IRQ11, D5 IRQ12, D6 IRQ13, D7 IRQ14, D8 DAK0#, D9 DRQ0, D10 DAK5#, D11 DRQ5, D12 DAK6#, D13 DRQ65, D14 DAK7#, D15 DRQ7, D16 +5V "+5 VDC", D17 MASTER16#, D18 GND "Ground"
part B pins: E1 CMD# "Command Phase", E2 START# "Start Phase", E3 EXRDY "EISA Ready", E4 EX32# "EISA Slave Size 32", E5 GND "Ground", E7 EX16# "EISA Slave Size 16", E8 SLBURST# "Slave Burst", E9 MSBURST# "Master Burst", E10 W/R# "Write/Read", E11 GND "Ground", E12 RES "Reserved", E13 RES "Reserved", E14 RES "Reserved", E15 GND "Ground", E17 BE1# "Byte Enable 1", E18 LA31# "Latchable Addressline 31", E19 GND "Ground", E20 LA30# "Latchable Addressline 30", E21 LA28# "Latchable Addressline 28", E22 LA27# "Latchable Addressline 27", E23 LA25# "Latchable Addressline 25", E24 GND "Ground", E26 LA15 "Latchable Addressline 15", E27 LA13 "Latchable Addressline 13", E28 LA12 "Latchable Addressline 12", E29 LA11 "Latchable Addressline 11", E30 GND "Ground", E31 LA9 "Latchable Addressline 9", F1 GND "Ground", F2 +5V "+5 VDC", F3 +5V "+5 VDC", F4 RES "Reserved", F5 RES "Reserved", F7 RES "Reserved", F8 RES "Reserved", F9 +12V "+12 VDC", F10 M/IO# "Memory/Input-Output", F11 LOCK# "Lock bus", F12 RES "Reserved", F13 GND "Ground", F14 RES "Reserved", F15 BE3# "Byte Enable 3", F17 BE2# "Byte Enable 2", F18 BE0# "Byte Enable 0", F19 GND "Ground", F20 +5V "+5 VDC", F21 LA29# "Latchable Addressline 29", F22 GND "Ground", F23 LA26# "Latchable Addressline 26", F24 LA24# "Latchable Addressline 24", F26 LA16 "Latchable Addressline 16", F27 LA14 "Latchable Addressline 14", F28 +5V "+5 VDC", F29 +5V "+5 VDC", F30 GND "Ground", F31 LA10 "Latchable Addressline 10", G1 LA7 "Latchable Addressline 7", G2 GND "Ground", G3 LA4 "Latchable Addressline 4", G4 LA3 "Latchable Addressline 3", G5 GND "Ground", G7 D17 "Data 17", G8 D19 "Data 19", G9 D20 "Data 20", G10 D22 "Data 22", G11 GND "Ground", G12 D25 "Data 25", G13 D26 "Data 26", G14 D28 "Data 28", G16 GND "Ground", G17 D30 "Data 30", G18 D31 "Data 31", G19 MREQx "Master Request", H1 LA8 "Latchable Addressline 8", H2 LA6 "Latchable Addressline 6", H3 LA5 "Latchable Addressline 5", H4 +5V "+5 VDC", H5 LA2 "Latchable Addressline 2", H7 D16 "Data 16", H8 D18 "Data 18", H9 GND "Ground", H10 D21 "Data 21", H11 D23 "Data 23", H12 D24 "Data 24", H13 GND "Ground", H14 D27 "Data 27", H16 D29 "Data 29", H17 +5V "+5 VDC", H18 +5V "+5 VDC", H19 MAKx "Master Acknowledge"

## Connector 14
designator J?
Receptacle Header Assemby; PackageDocument: B; Positions: 14; Published: 15-Jun-2001; LatestRevisionDate: 17-Jul-2002; LatestRevisionNote: Re-released for DXP Platform.; DatasheetDocument: 1-Oct-1983; PackageReference: 178240-1; Publisher: Altium Limited; Orientation: Right Angle
footprint CHAMP1.27-2H14A (Connector; 14 Position; Right Angle; Pitch 1.27 mm)
signal-integrity model Connector
pins: 1, 2, 3, 4, 5, 6, 7, 8, 9, 10, 11, 12, 13, 14, 15 MH1, 16 MH2

## Connector 15
designator J?
Receptacle Assembly, 15-Pin, Sim Line Connector; PackageDocument: B; Positions: 15; Gender: Receptacle Header; Published: 15-Jun-2001; LatestRevisionDate: 17-Jul-2002; LatestRevisionNote: Re-released for DXP Platform.; DatasheetDocument: 24-Nov-1999; PackageReference: 788574; Publisher: Altium Limited; Orientation: Right Angle
footprint 050DSUB0.762-4H15 (Connector; D Subminiature; 15 Position; Right Angle; Pitch 0.762 mm)
signal-integrity model Connector
pins: 1, 2, 3, 4, 5, 6, 7, 8, 9, 10, 11, 12, 13, 14, 15, 16 MH1, 17 MH2

## Connector 20
designator J?
Receptacle Header Assemby; PackageDocument: B; Positions: 20; Published: 15-Jun-2001; LatestRevisionDate: 17-Jul-2002; LatestRevisionNote: Re-released for DXP Platform.; DatasheetDocument: 1-Oct-1983; PackageReference: 178240-2; Publisher: Altium Limited; Orientation: Right Angle
footprint CHAMP1.27-2H20 (Connector; 20 Position; Right Angle; Pitch 1.27 mm)
signal-integrity model Connector
pins: 1, 2, 3, 4, 5, 6, 7, 8, 9, 10, 11, 12, 13, 14, 15, 16, 17, 18, 19, 20, 21 MH1, 22 MH2

## Connector 26
designator J?
Receptacle Header Assemby; PackageDocument: B; Positions: 26; Published: 15-Jun-2001; LatestRevisionDate: 17-Jul-2002; LatestRevisionNote: Re-released for DXP Platform.; DatasheetDocument: 1-Oct-1983; PackageReference: 178240-4; Publisher: Altium Limited; Orientation: Right Angle
footprint CHAMP1.27-2H26 (Connector; 26 Position; Right Angle; Pitch 1.27 mm)
signal-integrity model Connector
pins: 1, 2, 3, 4, 5, 6, 7, 8, 9, 10, 11, 12, 13, 14, 15, 16, 17, 18, 19, 20, 21, 22, 23, 24, 25, 26, 27 MH1, 28 MH2

## Connector 30
designator J?
Plug Assembly, 30-Pin Connector; PackageDocument: E; Positions: 30; Gender: Receptacle Header; Published: 15-Jun-2001; LatestRevisionDate: 17-Jul-2002; LatestRevisionNote: Re-released for DXP Platform.; DatasheetDocument: 31-Oct-1991; PackageReference: 174213-1; Publisher: Altium Limited; Orientation: Right Angle
footprint 050DSUB1.27-2H30 (Connector; D Subminiature; 30 Position; Right Angle; Pitch 1.27 mm)
signal-integrity model Connector
pins: 1, 2, 3, 4, 5, 6, 7, 8, 9, 10, 11, 12, 13, 14, 15, 16, 17, 18, 19, 20, 21, 22, 23, 24, 25, 26, 27, 28, 29, 30, 31 MH1, 32 MH2

## Connector 34
designator J?
Plug Assembly, 34-Pin Connector; PackageDocument: F; Positions: 34; Gender: Receptacle Header; Published: 15-Jun-2001; LatestRevisionDate: 17-Jul-2002; LatestRevisionNote: Re-released for DXP Platform.; DatasheetDocument: 3-Apr-1991; PackageReference: 174207-5; Publisher: Altium Limited; Orientation: Right Angle
footprint 050DSUB1.27-2H34 (Connector; D Subminiature; 34 Position; Right Angle; Pitch 1.27 mm)
signal-integrity model Connector
pins: 1, 2, 3, 4, 5, 6, 7, 8, 9, 10, 11, 12, 13, 14, 15, 16, 17, 18, 19, 20, 21, 22, 23, 24, 25, 26, 27, 28, 29, 30, 31, 32, 33, 34, 35 MH1, 36 MH2

## Connector 36
designator J?
Receptacle Header Assemby; PackageDocument: B; Positions: 36; Published: 15-Jun-2001; LatestRevisionDate: 17-Jul-2002; LatestRevisionNote: Re-released for DXP Platform.; DatasheetDocument: 1-Oct-1983; PackageReference: 178240-5; Publisher: Altium Limited; Orientation: Right Angle
footprint CHAMP1.27-2H36 (Connector; 36 Position; Right Angle; Pitch 1.27 mm)
signal-integrity model Connector
pins: 1, 2, 3, 4, 5, 6, 7, 8, 9, 10, 11, 12, 13, 14, 15, 16, 17, 18, 19, 20, 21, 22, 23, 24, 25, 26, 27, 28, 29, 30, 31, 32, 33, 34, 35, 36, 37 MH1, 38 MH2

## Connector 40
designator J?
Plug Assembly, 40-Pin Connector; PackageDocument: E; Positions: 40; Gender: Receptacle Header; Published: 15-Jun-2001; LatestRevisionDate: 17-Jul-2002; LatestRevisionNote: Re-released for DXP Platform.; DatasheetDocument: 31-Oct-1991; PackageReference: 174213-2; Publisher: Altium Limited; Orientation: Right Angle
footprint 050DSUB1.27-2H40 (Connector; D Subminiature; 40 Position; Right Angle; Pitch 1.27 mm)
signal-integrity model Connector
pins: 1, 2, 3, 4, 5, 6, 7, 8, 9, 10, 11, 12, 13, 14, 15, 16, 17, 18, 19, 20, 21, 22, 23, 24, 25, 26, 27, 28, 29, 30, 31, 32, 33, 34, 35, 36, 37, 38, 39, 40, 41 MH1, 42 MH2

## Connector 48
designator J?
Plug Assembly, 48-Pin Connector; PackageDocument: F; Positions: 48; Gender: Receptacle Header; Published: 15-Jun-2001; LatestRevisionDate: 17-Jul-2002; LatestRevisionNote: Re-released for DXP Platform.; DatasheetDocument: 3-Apr-1991; PackageReference: 174207-6; Publisher: Altium Limited; Orientation: Right Angle
footprint 050DSUB1.27-2H48 (Connector; D Subminiature; 48 Position; Right Angle; Pitch 1.27 mm)
signal-integrity model Connector
pins: 1, 2, 3, 4, 5, 6, 7, 8, 9, 10, 11, 12, 13, 14, 15, 16, 17, 18, 19, 20, 21, 22, 23, 24, 25, 26, 27, 28, 29, 30, 31, 32, 33, 34, 35, 36, 37, 38, 39, 40, 41, 42, 43, 44, 45, 46, 47, 48, 49 MH1, 50 MH2

## Connector 50
designator J?
Receptacle Header Assemby; PackageDocument: B; Positions: 50; Published: 15-Jun-2001; LatestRevisionDate: 17-Jul-2002; LatestRevisionNote: Re-released for DXP Platform.; DatasheetDocument: 1-Oct-1983; PackageReference: 178240-7; Publisher: Altium Limited; Orientation: Right Angle
footprint CHAMP1.27-2H50 (Connector; 50 Position; Right Angle; Pitch 1.27 mm)
signal-integrity model Connector
pins: 1, 2, 3, 4, 5, 6, 7, 8, 9, 10, 11, 12, 13, 14, 15, 16, 17, 18, 19, 20, 21, 22, 23, 24, 25, 26, 27, 28, 29, 30, 31, 32, 33, 34, 35, 36, 37, 38, 39, 40, 41, 42, 43, 44, 45, 46, 47, 48, 49, 50, 51 MH1, 52 MH2

## Connector 60
designator J?
Plug Assembly, 60-Pin Connector; PackageDocument: D; Positions: 60; Gender: Receptacle Header; Published: 15-Jun-2001; LatestRevisionDate: 17-Jul-2002; LatestRevisionNote: Re-released for DXP Platform.; DatasheetDocument: 1-Apr-1991; PackageReference: 174215-4; Publisher: Altium Limited; Orientation: Vertical
footprint 050DSUB1.27-V60 (Connector; D Subminiature; 60 Position; Vertical; Pitch 1.27 mm)
signal-integrity model Connector
pins: 1, 2, 3, 4, 5, 6, 7, 8, 9, 10, 11, 12, 13, 14, 15, 16, 17, 18, 19, 20, 21, 22, 23, 24, 25, 26, 27, 28, 29, 30, 31, 32, 33, 34, 35, 36, 37, 38, 39, 40, 41, 42, 43, 44, 45, 46, 47, 48, 49, 50, 51, 52, 53, 54, 55, 56, 57, 58, 59, 60

## Connector 68
designator J?
Receptacle Header Assemby; PackageDocument: B; Positions: 68; Published: 15-Jun-2001; LatestRevisionDate: 17-Jul-2002; LatestRevisionNote: Re-released for DXP Platform.; DatasheetDocument: 1-Oct-1983; PackageReference: 178240-8; Publisher: Altium Limited; Orientation: Right Angle
footprint CHAMP1.27-2H68 (Connector; 68 Position; Right Angle; Pitch 1.27 mm)
signal-integrity model Connector
pins: 1, 2, 3, 4, 5, 6, 7, 8, 9, 10, 11, 12, 13, 14, 15, 16, 17, 18, 19, 20, 21, 22, 23, 24, 25, 26, 27, 28, 29, 30, 31, 32, 33, 34, 35, 36, 37, 38, 39, 40, 41, 42, 43, 44, 45, 46, 47, 48, 49, 50, 51, 52, 53, 54, 55, 56, 57, 58, 59, 60, 61, 62, 63, 64, 65, 66, 67, 68, 69 MH1, 70 MH2

## Connector 80
designator J?
Receptacle Header Assemby; PackageDocument: C; Positions: 80; Published: 15-Jun-2001; LatestRevisionDate: 17-Jul-2002; LatestRevisionNote: Re-released for DXP Platform.; DatasheetDocument: 1-Oct-1983; PackageReference: 917334; Publisher: Altium Limited; Orientation: Vertical
footprint CHAMP1.27-2V80 (Connector; 80 Position; Vertical; Pitch 1.27 mm)
signal-integrity model Connector
pins: 1, 2, 3, 4, 5, 6, 7, 8, 9, 10, 11, 12, 13, 14, 15, 16, 17, 18, 19, 20, 21, 22, 23, 24, 25, 26, 27, 28, 29, 30, 31, 32, 33, 34, 35, 36, 37, 38, 39, 40, 41, 42, 43, 44, 45, 46, 47, 48, 49, 50, 51, 52, 53, 54, 55, 56, 57, 58, 59, 60, 61, 62, 63, 64, 65, 66, 67, 68, 69, 70, 71, 72, 73, 74, 75, 76, 77, 78, 79, 80, 81 MH1, 82 MH2

## Connector 96
designator J?
Plug Assembly, 96-Pin Connector; PackageDocument: C; Positions: 96; Gender: Receptacle Header; Published: 15-Jun-2001; LatestRevisionDate: 17-Jul-2002; LatestRevisionNote: Re-released for DXP Platform.; DatasheetDocument: 29-Mar-1991; PackageReference: 3-174682-8; Publisher: Altium Limited; Orientation: Right Angle
footprint 050DSUB1.27-H96 (Connector; D Subminiature; 96 Position; Right Angle; Pitch 1.27 mm)
signal-integrity model Connector
pins: 1, 2, 3, 4, 5, 6, 7, 8, 9, 10, 11, 12, 13, 14, 15, 16, 17, 18, 19, 20, 21, 22, 23, 24, 25, 26, 27, 28, 29, 30, 31, 32, 33, 34, 35, 36, 37, 38, 39, 40, 41, 42, 43, 44, 45, 46, 47, 48, 49, 50, 51, 52, 53, 54, 55, 56, 57, 58, 59, 60, 61, 62, 63, 64, 65, 66, 67, 68, 69, 70, 71, 72, 73, 74, 75, 76, 77, 78, 79, 80, 81, 82, 83, 84, 85, 86, 87, 88, 89, 90, 91, 92, 93, 94, 95, 96

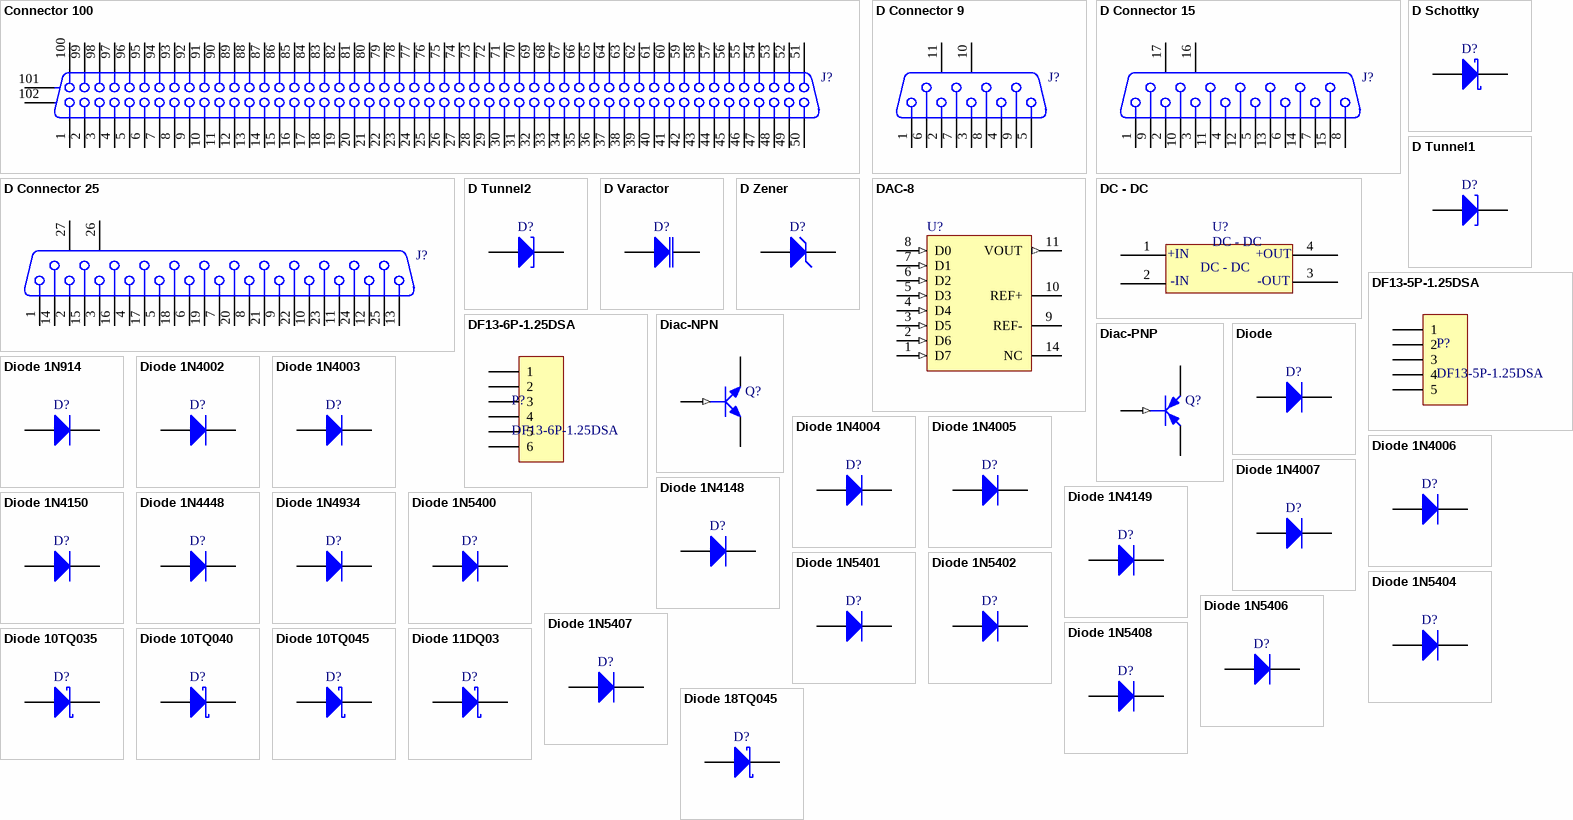
[diagram p2: symbols Connector 100 to Diode 18TQ045]

## Connector 100
designator J?
Receptacle Header Assemby; PackageDocument: B; Positions: 100; Published: 15-Jun-2001; LatestRevisionDate: 17-Jul-2002; LatestRevisionNote: Re-released for DXP Platform.; DatasheetDocument: 1-Oct-1983; PackageReference: 178240-9; Publisher: Altium Limited; Orientation: Right Angle
footprint CHAMP1.27-2H100 (Connector; 100 Position; Right Angle; Pitch 1.27 mm)
signal-integrity model Connector
pins: 1, 2, 3, 4, 5, 6, 7, 8, 9, 10, 11, 12, 13, 14, 15, 16, 17, 18, 19, 20, 21, 22, 23, 24, 25, 26, 27, 28, 29, 30, 31, 32, 33, 34, 35, 36, 37, 38, 39, 40, 41, 42, 43, 44, 45, 46, 47, 48, 49, 50, 51, 52, 53, 54, 55, 56, 57, 58, 59, 60, 61, 62, 63, 64, 65, 66, 67, 68, 69, 70, 71, 72, 73, 74, 75, 76, 77, 78, 79, 80, 81, 82, 83, 84, 85, 86, 87, 88, 89, 90, 91, 92, 93, 94, 95, 96, 97, 98, 99, 100, 101 MH1, 102 MH2

## D Connector 9
designator J?
Receptacle Assembly, 9 Position, Right Angle; PackageDocument: O; Positions: 9; Published: 15-Jun-2001; LatestRevisionDate: 17-Jul-2002; LatestRevisionNote: Re-released for DXP Platform.; DatasheetDocument: 1-Sep-1999; PackageReference: 788750; Publisher: Altium Limited; Orientation: Right Angle; Gender: Receptacle
footprint DSUB1.385-2H9 (Connector; D Subminiature; 9 Position; Right Angle; Pitch 1.385 mm)
signal-integrity model Connector
pins: 1, 2, 3, 4, 5, 6, 7, 8, 9, 10 MH1, 11 MH2

## D Connector 15
designator J?
Receptacle Assembly, 15 Position, Right Angle; PackageDocument: O; Positions: 15; Published: 15-Jun-2001; LatestRevisionDate: 17-Jul-2002; LatestRevisionNote: Re-released for DXP Platform.; DatasheetDocument: 1-Sep-99; PackageReference: 788757; Publisher: Altium Limited; Orientation: Right Angle; Gender: Receptacle
footprint DSUB1.385-2H15 (Connector; D Subminiature; 15 Position; Right Angle; Pitch 1.385 mm)
signal-integrity model Connector
pins: 1, 2, 3, 4, 5, 6, 7, 8, 9, 10, 11, 12, 13, 14, 15, 16 MH1, 17 MH2

## D Connector 25
designator J?
Receptacle Assembly, 25 Position, Right Angle; PackageDocument: U; Positions: 25; Published: 15-Jun-2001; LatestRevisionDate: 17-Jul-2002; LatestRevisionNote: Re-released for DXP Platform.; DatasheetDocument: 19-Mar-1999; PackageReference: 787202; Publisher: Altium Limited; Orientation: Right Angle; Gender: Receptacle
footprint DSUB1.385-2H25A (Connector; D Subminiature; 25 Position; Right Angle; Pitch 1.385 mm)
signal-integrity model Connector
pins: 1, 2, 3, 4, 5, 6, 7, 8, 9, 10, 11, 12, 13, 14, 15, 16, 17, 18, 19, 20, 21, 22, 23, 24, 25, 26 MH1, 27 MH2

## D Schottky
designator D?
Schottky Diode; Published: 8-Jun-2000; LatestRevisionDate: 17-Jul-2002; LatestRevisionNote: Re-released for DXP Platform.; PackageReference: SMB; Publisher: Altium Limited; PackageDescription: DO-214-AA/SMB; 2 C-Bend Leads; Body 5.3 x 3.6 mm, inc. leads (LxW); Code_JEDEC: DO-214-AA
footprint SMB (DO-214-AA/SMB; 2 C-Bend Leads; Body 5.3 x 3.6 mm, inc. leads (LxW))
pins: 1 A, 2 K

## D Tunnel1
designator D?
Tunnel Diode - RLC Model; Published: 8-Jun-2000; LatestRevisionDate: 17-Jul-2002; LatestRevisionNote: Re-released for DXP Platform.; PackageVersion: Feb-2002; PackageReference: 3.2X1.6X1.1; Publisher: Altium Limited; PackageDescription: SM LED; 2 Flat Leads
footprint 3.2X1.6X1.1 (SMT LED; 2 Flat Leads)
pins: 1 A, 2 K

## D Tunnel2
designator D?
Tunnel Diode - Dependent Source Model; Published: 15-Apr-2002; LatestRevisionDate: 17-Jul-2002; LatestRevisionNote: Re-released for DXP Platform.; PackageReference: DIODE-0.4; Publisher: Altium Limited; PackageDescription: Diode, Thru-Hole; 2 Leads; 0.4 in Pin Spacing
footprint DIODE-0.4 (Diode, Thru-Hole; 2 Leads; 0.4 in Pin Spacing)
pins: 1 A, 2 K

## D Varactor
designator D?
Variable Capacitance Diode; Note: Pin 2 is not connected and not drawn.; Published: 8-Jun-2000; LatestRevisionDate: 29-May-2009; LatestRevisionNote: IPC-7351 Footprint Added.; DatasheetVersion: Jan-1998; PackageVersion: 1996; PackageReference: SOT23A; Publisher: Altium Limited; PackageDescription: 3-Pin SOT-23 Package 0.95 mm Pitch, 2.3 mm Lead Span - Reverse Pinning; ComponentLink1Description: Manufacturer Link; ComponentLink1URL: http://www.zetex.com/
footprint SOT23_N (SOT23, 3-Leads, Body 2.9x1.3mm, Pitch 0.95mm, Lead Span 2.3mm - Reverse Pinning, IPC Medium Density)
footprint SOT23_L (SOT23, 3-Leads, Body 2.9x1.3mm, Pitch 0.95mm, Lead Span 2.3mm - Reverse Pinning, IPC High Density)
footprint SOT23_M (SOT23, 3-Leads, Body 2.9x1.3mm, Pitch 0.95mm, Lead Span 2.3mm - Reverse Pinning, IPC Low Density)
pins: 1 K, 3 A

## D Zener
designator D?
Zener Diode; Published: 8-Jun-2000; LatestRevisionDate: 17-Jul-2002; LatestRevisionNote: Re-released for DXP Platform.; PackageReference: DIODE-0.7; Publisher: Altium Limited; PackageDescription: Diode, Thru-Hole; 2 Leads; 0.7 in Pin Spacing
footprint DIODE-0.7 (Diode, Thru-Hole; 2 Leads; 0.7 in Pin Spacing)
pins: 1 A, 2 K

## DAC-8
designator U?
Generic 8-Bit D/A Converter; Published: 8-Jun-2000; LatestRevisionDate: 29-May-2009; LatestRevisionNote: IPC-7351 Footprint Added.; PackageVersion: Mar-2002; PackageReference: SOT402-1; Publisher: Altium Limited; PackageDescription: 14-Pin Thin Small Outline Package 0.65 mm Pitch; Code_JEDEC: MO-153
footprint SOT402-1_N (TSOP, 14-Leads, Body 5x4.4mm, Pitch 0.65mm, IPC Medium Density)
footprint SOT402-1_L (TSOP, 14-Leads, Body 5x4.4mm, Pitch 0.65mm, IPC High Density)
footprint SOT402-1_M (TSOP, 14-Leads, Body 5x4.4mm, Pitch 0.65mm, IPC Low Density)
pins: 1 D7 (in), 2 D6 (in), 3 D5 (in), 4 D4 (in), 5 D3 (in), 6 D2 (in), 7 D1 (in), 8 D0 (in), 9 REF-, 10 REF+, 11 VOUT (out), 12 GND (power) hidden to GND, 13 VCC (power) hidden to VCC, 14 NC

## DC - DC
designator U?
footprint DC-DC_LM2596
pins: 1 0, 2 1, 3 2, 4 3
text: +IN; +OUT; -IN; -OUT